# EAGLE library part S18V20X (library slothbot_parts)
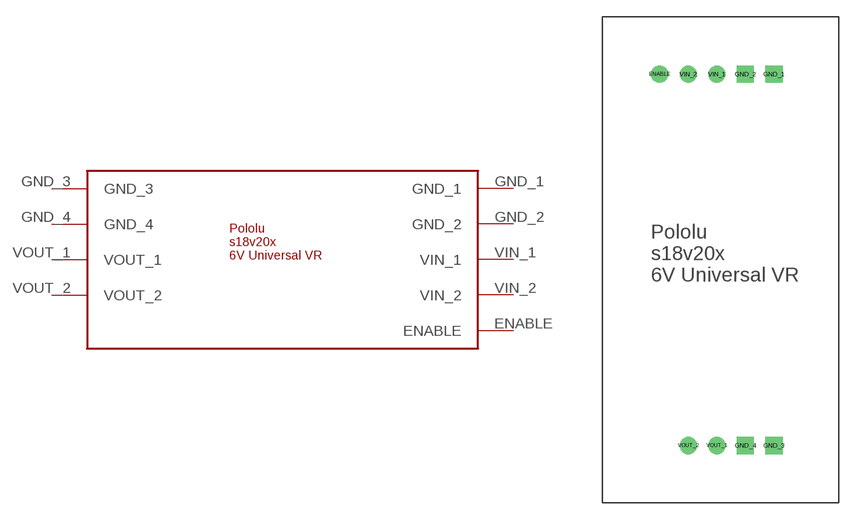
[diagram p0: symbol with the pads of S18V20F6; footprint S18V20F6]

Designator prefix -

## S18V20X  [S18V20F6]
ENABLE  ENABLE
GND_1  GND_1
GND_2  GND_2
GND_3  GND_3
GND_4  GND_4
VIN_1  VIN_1
VIN_2  VIN_2
VOUT_1  VOUT_1
VOUT_2  VOUT_2

## Footprint S18V20F6 (pad centres in mm)
drill 1.02: ENABLE 5.08,38.1; VIN_1 10.16,38.1; VIN_2 7.62,38.1; VOUT_1 10.16,5.08; VOUT_2 7.62,5.08
drill 1.02 square: GND_1 15.24,38.1; GND_2 12.7,38.1; GND_3 15.24,5.08; GND_4 12.7,5.08